# Altium schematic symbol library SIMHolder.SchLib: 1 symbol
Pins are listed as number, name and electrical type; pins without a type are passive.

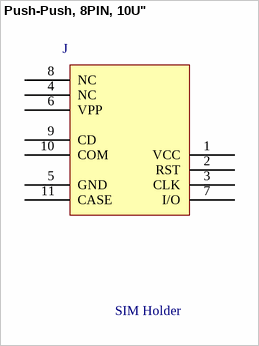
[diagram p0: symbol Push-Push, 8PIN, 10U"]

## Push-Push, 8PIN, 10U"
designator J  value SIM Holder  (hidden comment: *)
footprint Push-Push, 8PIN, 10U" (Footprint not found)
footprint Push-Push, 8PIN, 10U"
pins: 1 VCC, 2 RST, 3 CLK, 4 NC, 5 GND, 6 VPP, 7 I/O, 8 NC, 9 CD, 10 COM, 11 CASE